# Altium schematic symbol library Arduino System 2560.SchLib: 13 symbols
Pins are listed as number, name and electrical type; pins without a type are passive.

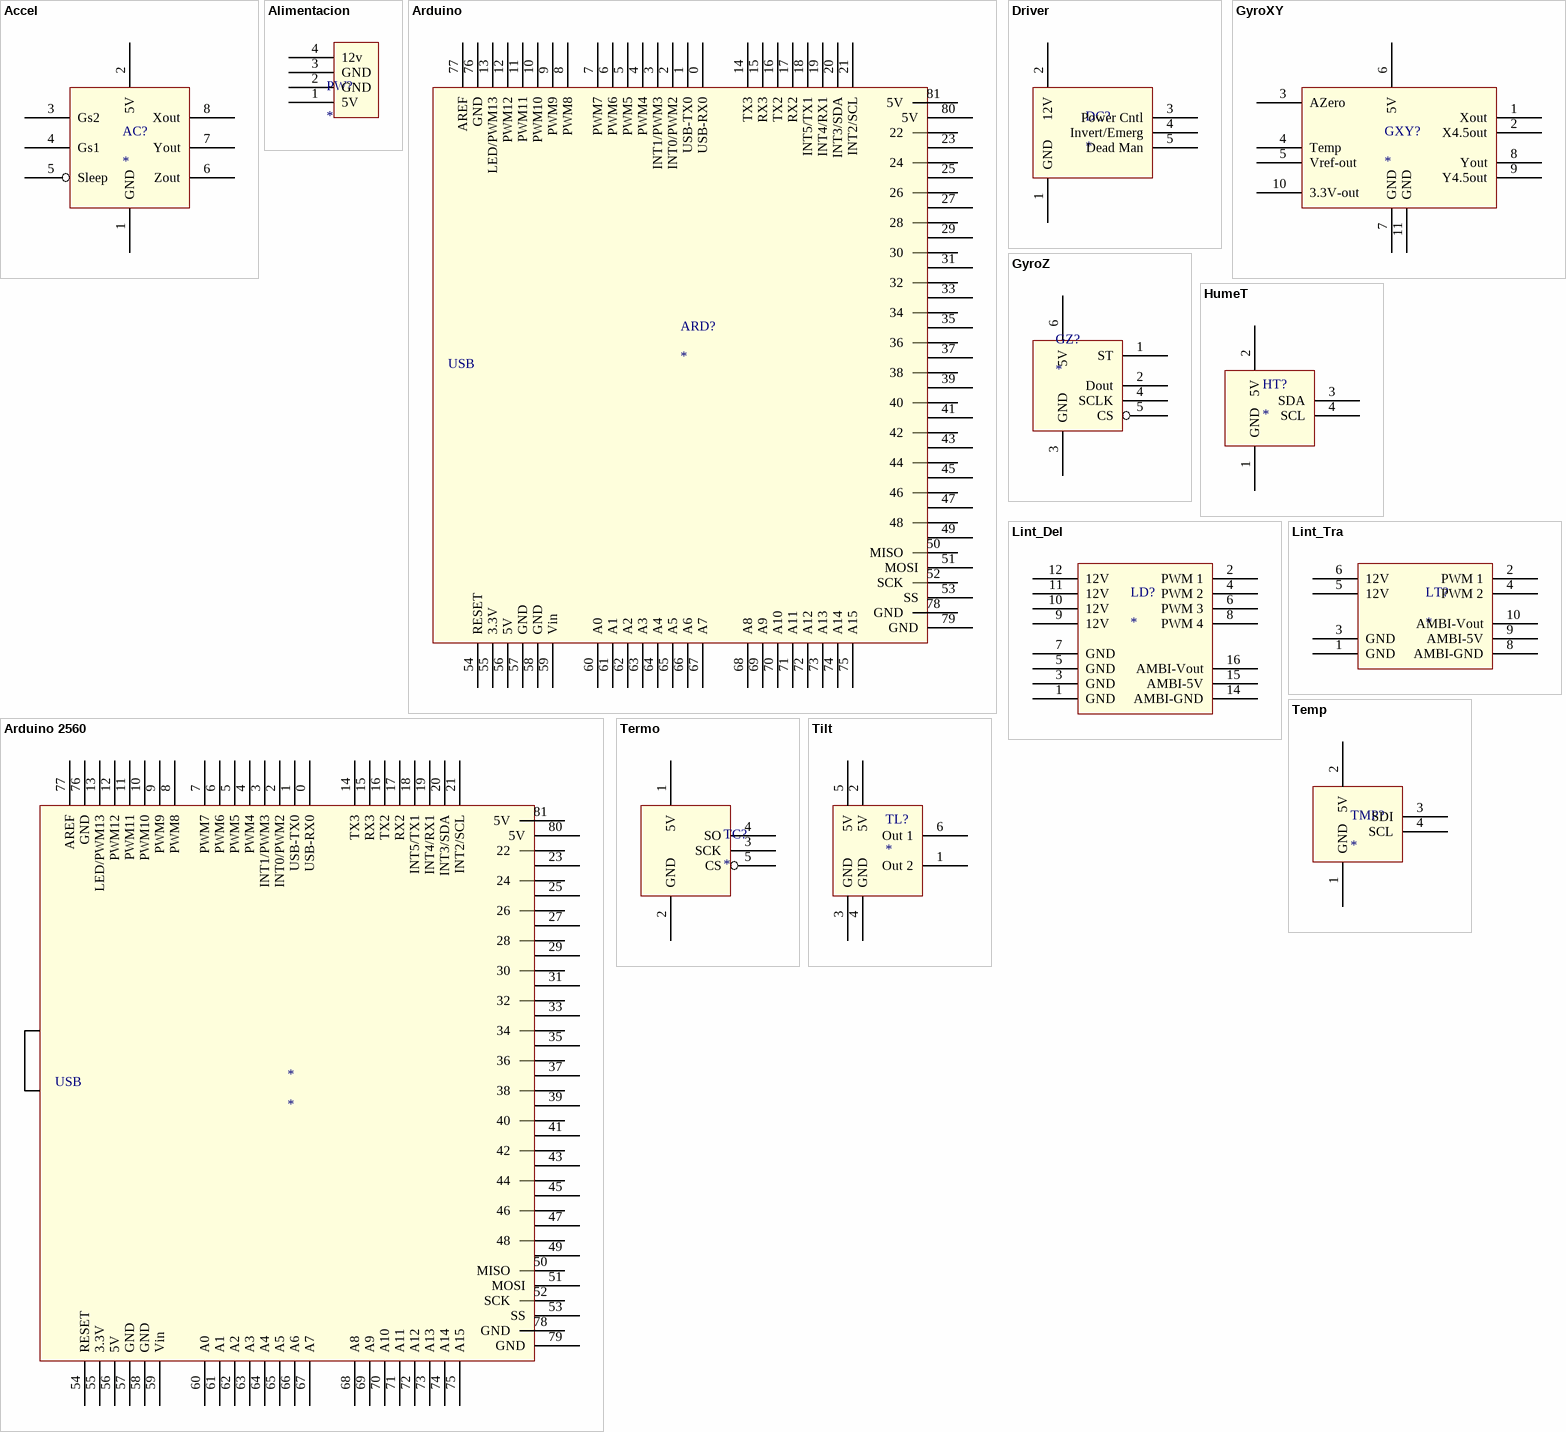
[diagram p0: symbols Accel to Tilt]

## Accel
designator AC?
footprint Accel
3D model Accel (PCB3D Model)
pins: 1 GND, 2 5V, 3 Gs2, 4 Gs1, 5 Sleep, 6 Zout, 7 Yout, 8 Xout

## Alimentacion
designator PW?
footprint Alimentacion
3D model Alimentación (PCB3D Model)
pins: 1 5V, 2 GND, 3 GND, 4 12v

## Arduino
designator ARD?
footprint Arduino (Arduino Mega 2560)
3D model Arduino (PCB3D Model)
pins: 0 USB-RX0, 1 USB-TX0, 2 INT0/PWM2, 3 INT1/PWM3, 4 PWM4, 5 PWM5, 6 PWM6, 7 PWM7, 8 PWM8, 9 PWM9, 10 PWM10, 11 PWM11, 12 PWM12, 13 LED/PWM13, 14 TX3, 15 RX3, 16 TX2, 17 RX2, 18 INT5/TX1, 19 INT4/RX1, 20 INT3/SDA, 21 INT2/SCL, 22, 23, 24, 25, 26, 27, 28, 29, 30, 31, 32, 33, 34, 35, 36, 37, 38, 39, 40, 41, 42, 43, 44, 45, 46, 47, 48, 49, 50 MISO, 51 MOSI, 52 SCK, 53 SS, 54 RESET, 55 3.3V, 56 5V, 57 GND, 58 GND, 59 Vin, 60 A0, 61 A1, 62 A2, 63 A3, 64 A4, 65 A5, 66 A6, 67 A7, 68 A8, 69 A9, 70 A10, 71 A11, 72 A12, 73 A13, 74 A14, 75 A15, 76 GND, 77 AREF, 78 GND, 79 GND, 80 5V, 81 5V
text: USB

## Arduino 2560
designator *
pins: 0 USB-RX0, 1 USB-TX0, 2 INT0/PWM2, 3 INT1/PWM3, 4 PWM4, 5 PWM5, 6 PWM6, 7 PWM7, 8 PWM8, 9 PWM9, 10 PWM10, 11 PWM11, 12 PWM12, 13 LED/PWM13, 14 TX3, 15 RX3, 16 TX2, 17 RX2, 18 INT5/TX1, 19 INT4/RX1, 20 INT3/SDA, 21 INT2/SCL, 22, 23, 24, 25, 26, 27, 28, 29, 30, 31, 32, 33, 34, 35, 36, 37, 38, 39, 40, 41, 42, 43, 44, 45, 46, 47, 48, 49, 50 MISO, 51 MOSI, 52 SCK, 53 SS, 54 RESET, 55 3.3V, 56 5V, 57 GND, 58 GND, 59 Vin, 60 A0, 61 A1, 62 A2, 63 A3, 64 A4, 65 A5, 66 A6, 67 A7, 68 A8, 69 A9, 70 A10, 71 A11, 72 A12, 73 A13, 74 A14, 75 A15, 76 GND, 77 AREF, 78 GND, 79 GND, 80 5V, 81 5V
text: USB

## Driver
designator DC?
footprint Driver
3D model Conexión_Driver (PCB3D Model)
pins: 1 GND, 2 12V, 3 Power Cntl, 4 Invert/Emerg, 5 Dead Man

## GyroXY
designator GXY?
footprint GYRO_XY
3D model GyroXY (PCB3D Model)
pins: 1 Xout, 2 X4.5out, 3 AZero, 4 Temp, 5 Vref-out, 6 5V, 7 GND, 8 Yout, 9 Y4.5out, 10 3.3V-out, 11 GND

## GyroZ
designator GZ?
footprint Gyro_Z
3D model GyroZ (PCB3D Model)
pins: 1 ST, 2 Dout, 3 GND, 4 SCLK, 5 CS, 6 5V

## HumeT
designator HT?
footprint HUMET
3D model HumeT (PCB3D Model)
pins: 1 GND, 2 5V, 3 SDA, 4 SCL

## Lint_Del
designator LD?
footprint Lint_Del
3D model LintDel (PCB3D Model)
pins: 1 GND, 2 PWM 1, 3 GND, 4 PWM 2, 5 GND, 6 PWM 3, 7 GND, 8 PWM 4, 9 12V, 10 12V, 11 12V, 12 12V, 14 AMBI-GND, 15 AMBI-5V, 16 AMBI-Vout

## Lint_Tra
designator LT?
footprint Lint_Tra
3D model LintTra (PCB3D Model)
pins: 1 GND, 2 PWM 1, 3 GND, 4 PWM 2, 5 12V, 6 12V, 8 AMBI-GND, 9 AMBI-5V, 10 AMBI-Vout

## Temp
designator TMP?
footprint TEMP
3D model Temp (PCB3D Model)
pins: 1 GND, 2 5V, 3 SDI, 4 SCL

## Termo
designator TC?
footprint Termo
3D model Termo (PCB3D Model)
pins: 1 5V, 2 GND, 3 SCK, 4 SO, 5 CS

## Tilt
designator TL?
footprint TILT
3D model Tilt (PCB3D Model)
pins: 1 Out 2, 2 5V, 3 GND, 4 GND, 5 5V, 6 Out 1